# Altium schematic symbol library SCH - LOGIC - DIODES 74AHC1G14SE-7.SchLib: 1 symbol
Pins are listed as number, name and electrical type; pins without a type are passive.

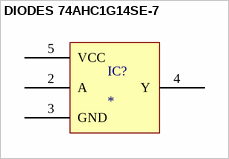
[diagram p0: symbol DIODES 74AHC1G14SE-7]

## DIODES 74AHC1G14SE-7
designator IC?
pins: 2 A, 3 GND, 4 Y, 5 VCC